# EAGLE library part MIC5325 (library BreakoutBoard)
MIC5325 Low Vin/Vout 400mA ULDO with Ultra-Low IQ Source: http://www.micrel.com/_PDF/mic5325.pdf
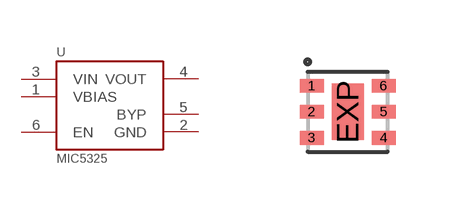
[diagram p10: symbol with the pads of MLF-6; footprint MLF-6]

Designator prefix -

## MIC5325-1.5YMT  [MLF-6]
1  VBIAS  pwr
2  GND  pwr
3  VIN  pwr
4  VOUT  pwr
5  BYP  pas
6  EN

## Footprint MLF-6 (pad centres in mm)
MLF 6-pin 2 mm x 2 mm 6-pin MLF package Source: http://www.micrel.com/_PDF/mic5325.pdf Copyright © 2011 Vanderbilt University, ISIS
smd 0.6 x 0.35: 1 -0.9,0.65; 2 -0.9,0; 3 -0.9,-0.65; 4 0.9,-0.65; 5 0.9,0; 6 0.9,0.65
smd 0.8 x 1.4: EXP 0,0